# EAGLE library part MOUDLE-NRF24L01+(QFN20) (library Seeed-OPL-Moudle)
113990011
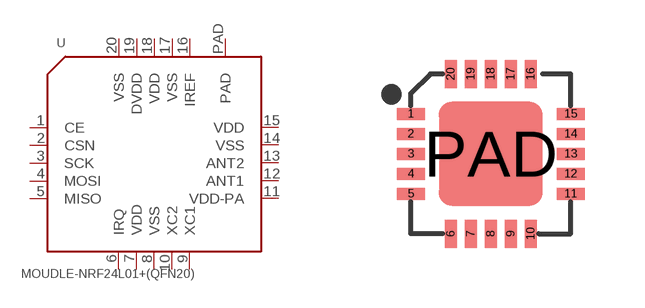
[diagram p6: symbol with the pads of QFN20G-0.5-4X4MM; footprint QFN20G-0.5-4X4MM]

Designator prefix U

## MOUDLE-NRF24L01+(QFN20) (MPN: NRF24L01+; VALUE: 2.4GHZ 1.9-3.6V)  [QFN20G-0.5-4X4MM]
1  CE
2  CSN
3  SCK
4  MOSI
5  MISO
6  IRQ
7  VDD
8  VSS
9  XC1
10  XC2
11  VDD-PA
12  ANT1
13  ANT2
14  VSS
15  VDD
16  IREF
17  VSS
18  VDD
19  DVDD
20  VSS
PAD  PAD

## Footprint QFN20G-0.5-4X4MM (pad centres in mm)
smd 0.7 x 0.3: 1 -2,1; 2 -2,0.5; 3 -2,0; 4 -2,-0.5; 5 -2,-1; 11 2,-1; 12 2,-0.5; 13 2,0; 14 2,0.5; 15 2,1
smd 0.3 x 0.7: 6 -1,-2; 7 -0.5,-2; 8 0,-2; 9 0.5,-2; 10 1,-2; 16 1,2; 17 0.5,2; 18 0,2; 19 -0.5,2; 20 -1,2
smd 2.6 x 2.6: PAD 0,0